# Altium schematic symbol library WL-OCTR.SchLib: 103 symbols (part 2 of 2)
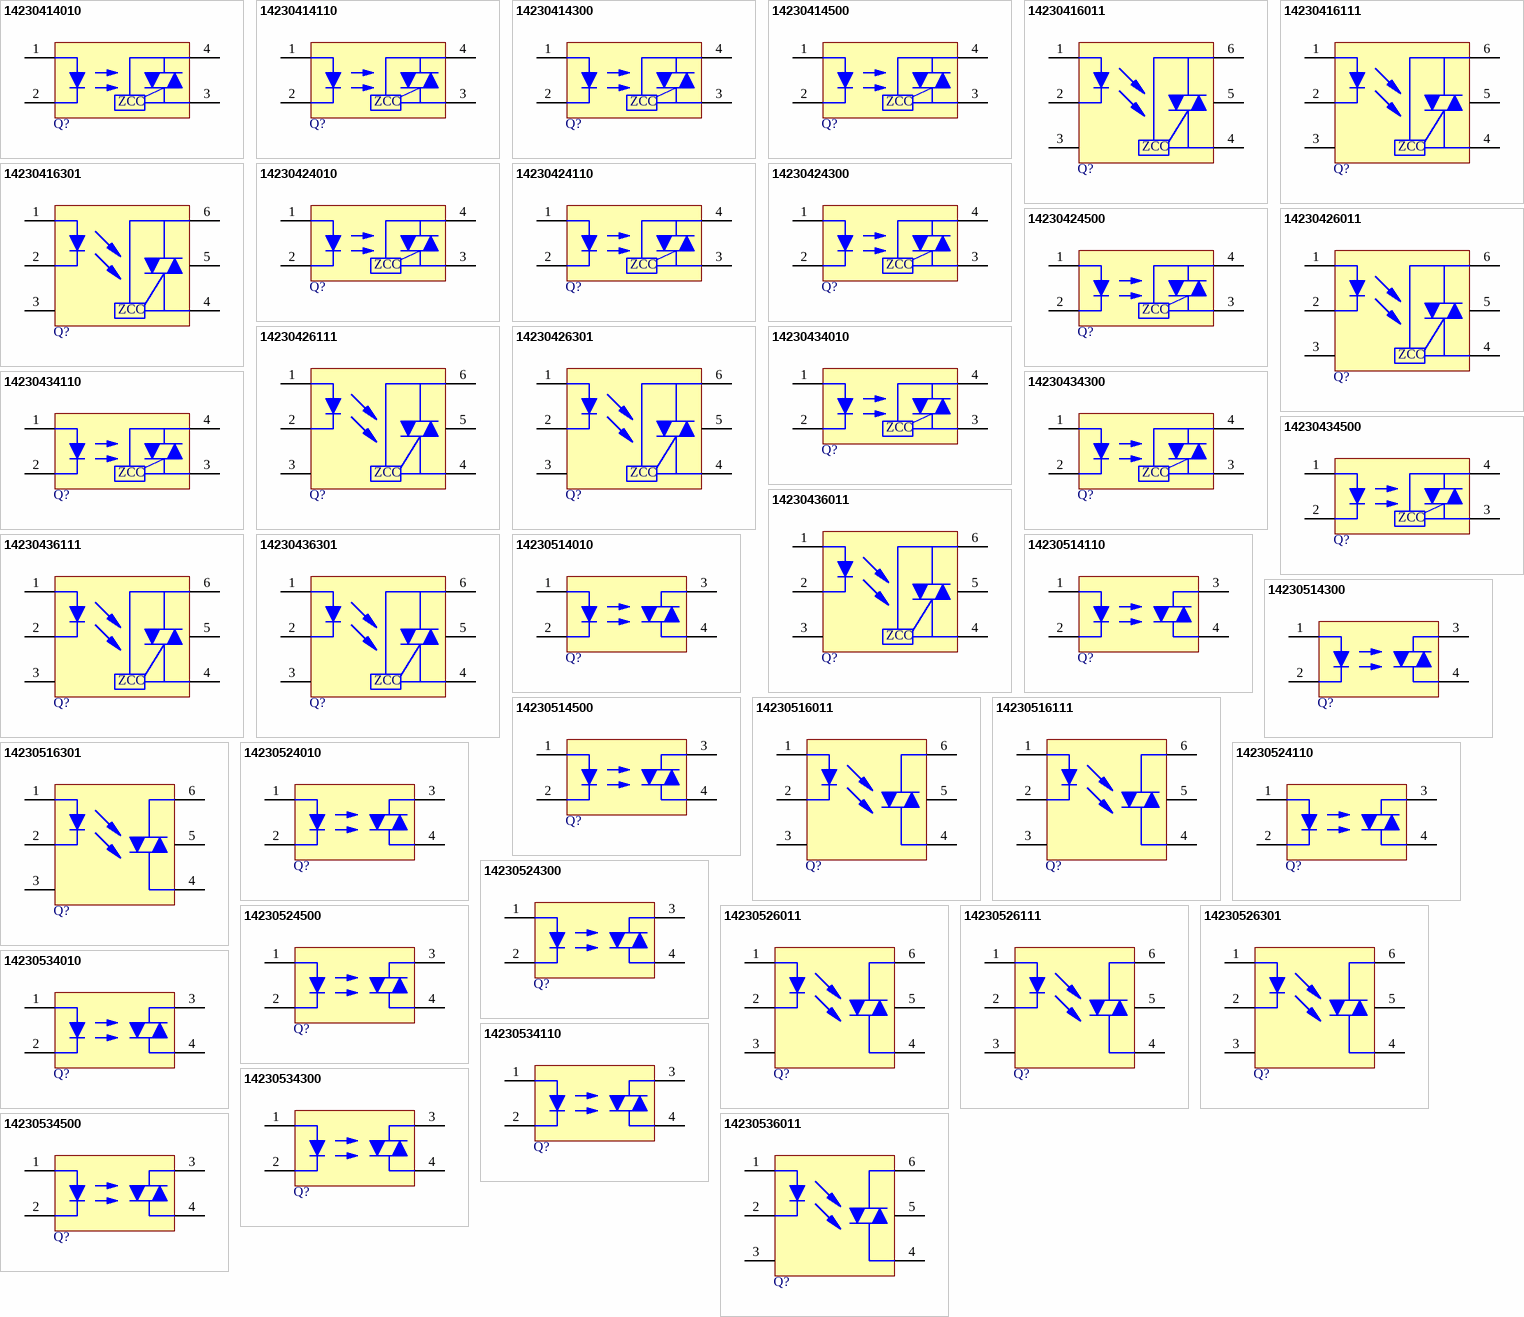
[diagram p3: symbols 14230414010 to 14230536011]

## 14230434500
designator Q?, comment 5mA, 1.24V  (value not drawn)
WL-OCTR Optocoupler Triac, SMT, SOP-4_Standard, 5mA, 1.24V; Manufacturer Part Number: 14230434500; Manufacturer: Wurth Elektronik; Isolation Voltage: 3750V (RMS); Repetitive Peak Off-state Voltage: 400V; Type: Zero Cross; Category: Optocoupler Triac; Match Code: WL-OCTR; ComponentLink1Description: Website Link; ComponentLink1URL: https://www.we-online.com/redexpert/article/14230434500?ad; ComponentLink2Description: Datasheet Link; ComponentLink2URL: https://www.we-online.com/redexpert/spec/14230434500?ad; Mount: Surface Mount; Operating Temperature Max: 100°C; Operating Temperature Min: -40°C; Packaging: Tape and Reel; Case/Size Code: SOP-4_Standard; Forward Voltage: 1.24V; LED Trigger current: 5mA
footprint WL-OCTR_SOP-4_Standard
pins: 1 Anode, 2 Cathode, 3 Terminal, 4 Terminal
text: ZCC

## 14230436011
designator Q?, comment 5mA, 1.24V  (value not drawn)
WL-OCTR Optocoupler Triac, THT, DIP-6_Standard, 5mA, 1.24V; Manufacturer Part Number: 14230436011; Manufacturer: Wurth Elektronik; Isolation Voltage: 5000V (RMS); Repetitive Peak Off-state Voltage: 400V; Type: Zero Cross; Category: Optocoupler Triac; Match Code: WL-OCTR; ComponentLink1Description: Website Link; ComponentLink1URL: https://www.we-online.com/redexpert/article/14230436011?ad; ComponentLink2Description: Datasheet Link; ComponentLink2URL: https://www.we-online.com/redexpert/spec/14230436011?ad; Mount: Through Hole; Operating Temperature Max: 100°C; Operating Temperature Min: -40°C; Packaging: Tube; Case/Size Code: DIP-6_Standard; Forward Voltage: 1.24V; LED Trigger current: 5mA
footprint WL-OCTR_DIP-6_Standard
pins: 1 Anode, 2 Cathode, 3 NC, 4 Terminal, 5 NC, 6 Terminal
text: ZCC

## 14230436111
designator Q?, comment 5mA, 1.24V  (value not drawn)
WL-OCTR Optocoupler Triac, THT, DIP-6_M-Type, 5mA, 1.24V; Manufacturer Part Number: 14230436111; Manufacturer: Wurth Elektronik; Isolation Voltage: 5000V (RMS); Repetitive Peak Off-state Voltage: 400V; Type: Zero Cross; Category: Optocoupler Triac; Match Code: WL-OCTR; ComponentLink1Description: Website Link; ComponentLink1URL: https://www.we-online.com/redexpert/article/14230436111?ad; ComponentLink2Description: Datasheet Link; ComponentLink2URL: https://www.we-online.com/redexpert/spec/14230436111?ad; Mount: Through Hole; Operating Temperature Max: 100°C; Operating Temperature Min: -40°C; Packaging: Tube; Case/Size Code: DIP-6_M-Type; Forward Voltage: 1.24V; LED Trigger current: 5mA
footprint WL-OCTR_DIP-6_M-Type
pins: 1 Anode, 2 Cathode, 3 NC, 4 Terminal, 5 NC, 6 Terminal
text: ZCC

## 14230436301
designator Q?, comment 5mA, 1.24V  (value not drawn)
WL-OCTR Optocoupler Triac, SMT, DIP-6_SL-Type, 5mA, 1.24V; Manufacturer Part Number: 14230436301; Manufacturer: Wurth Elektronik; Isolation Voltage: 5000V (RMS); Repetitive Peak Off-state Voltage: 400V; Type: Zero Cross; Category: Optocoupler Triac; Match Code: WL-OCTR; ComponentLink1Description: Website Link; ComponentLink1URL: https://www.we-online.com/redexpert/article/14230436301?ad; ComponentLink2Description: Datasheet Link; ComponentLink2URL: https://www.we-online.com/redexpert/spec/14230436301?ad; Mount: Surface Mount; Operating Temperature Max: 100°C; Operating Temperature Min: -40°C; Packaging: Tube; Case/Size Code: DIP-6_SL-Type; Forward Voltage: 1.24V; LED Trigger current: 5mA
footprint WL-OCTR_DIP-6_SL-Type
pins: 1 Anode, 2 Cathode, 3 NC, 4 Terminal, 5 NC, 6 Terminal
text: ZCC

## 14230514010
designator Q?, comment 15mA, 1.24V  (value not drawn)
WL-OCTR Optocoupler Triac, THT, DIP-4_Standard, 15mA, 1.24V; Manufacturer Part Number: 14230514010; Manufacturer: Wurth Elektronik; Isolation Voltage: 5000V (RMS); Repetitive Peak Off-state Voltage: 600V; Type: Random phase; Category: Optocoupler Triac; Match Code: WL-OCTR; ComponentLink1Description: Website Link; ComponentLink1URL: https://www.we-online.com/redexpert/article/14230514010?ad; ComponentLink2Description: Datasheet Link; ComponentLink2URL: https://www.we-online.com/redexpert/spec/14230514010?ad; Mount: Through Hole; Operating Temperature Max: 100°C; Operating Temperature Min: -40°C; Packaging: Tube; Case/Size Code: DIP-4_Standard; Forward Voltage: 1.24V; LED Trigger current: 15mA
footprint WL-OCTR_DIP-4_Standard
pins: 1 Anode, 2 Cathode, 3 Terminal, 4 Terminal

## 14230514110
designator Q?, comment 15mA, 1.24V  (value not drawn)
WL-OCTR Optocoupler Triac, THT, DIP-4_M-Type, 15mA, 1.24V; Manufacturer Part Number: 14230514110; Manufacturer: Wurth Elektronik; Isolation Voltage: 5000V (RMS); Repetitive Peak Off-state Voltage: 600V; Type: Random phase; Category: Optocoupler Triac; Match Code: WL-OCTR; ComponentLink1Description: Website Link; ComponentLink1URL: https://www.we-online.com/redexpert/article/14230514110?ad; ComponentLink2Description: Datasheet Link; ComponentLink2URL: https://www.we-online.com/redexpert/spec/14230514110?ad; Mount: Through Hole; Operating Temperature Max: 100°C; Operating Temperature Min: -40°C; Packaging: Tube; Case/Size Code: DIP-4_M-Type; Forward Voltage: 1.24V; LED Trigger current: 15mA
footprint WL-OCTR_DIP-4_M-Type
pins: 1 Anode, 2 Cathode, 3 Terminal, 4 Terminal

## 14230514300
designator Q?, comment 15mA, 1.24V  (value not drawn)
WL-OCTR Optocoupler Triac, SMT, DIP-4_SL-Type, 15mA, 1.24V; Manufacturer Part Number: 14230514300; Manufacturer: Wurth Elektronik; Isolation Voltage: 5000V (RMS); Repetitive Peak Off-state Voltage: 600V; Type: Random phase; Category: Optocoupler Triac; Match Code: WL-OCTR; ComponentLink1Description: Website Link; ComponentLink1URL: https://www.we-online.com/redexpert/article/14230514300?ad; ComponentLink2Description: Datasheet Link; ComponentLink2URL: https://www.we-online.com/redexpert/spec/14230514300?ad; Mount: Surface Mount; Operating Temperature Max: 100°C; Operating Temperature Min: -40°C; Packaging: Tube; Case/Size Code: DIP-4_SL-Type; Forward Voltage: 1.24V; LED Trigger current: 15mA
footprint WL-OCTR_DIP-4_SL-Type
pins: 1 Anode, 2 Cathode, 3 Terminal, 4 Terminal

## 14230514500
designator Q?, comment 15mA, 1.24V  (value not drawn)
WL-OCTR Optocoupler Triac, SMT, SOP-4_Standard, 15mA, 1.24V; Manufacturer Part Number: 14230514500; Manufacturer: Wurth Elektronik; Isolation Voltage: 3750V (RMS); Repetitive Peak Off-state Voltage: 600V; Type: Random phase; Category: Optocoupler Triac; Match Code: WL-OCTR; ComponentLink1Description: Website Link; ComponentLink1URL: https://www.we-online.com/redexpert/article/14230514500?ad; ComponentLink2Description: Datasheet Link; ComponentLink2URL: https://www.we-online.com/redexpert/spec/14230514500?ad; Mount: Surface Mount; Operating Temperature Max: 100°C; Operating Temperature Min: -40°C; Packaging: Tape and Reel; Case/Size Code: SOP-4_Standard; Forward Voltage: 1.24V; LED Trigger current: 15mA
footprint WL-OCTR_SOP-4_Standard
pins: 1 Anode, 2 Cathode, 3 Terminal, 4 Terminal

## 14230516011
designator Q?, comment 15mA, 1.24V  (value not drawn)
WL-OCTR Optocoupler Triac, THT, DIP-6_Standard, 15mA, 1.24V; Manufacturer Part Number: 14230516011; Manufacturer: Wurth Elektronik; Isolation Voltage: 5000V (RMS); Repetitive Peak Off-state Voltage: 600V; Type: Random phase; Category: Optocoupler Triac; Match Code: WL-OCTR; ComponentLink1Description: Website Link; ComponentLink1URL: https://www.we-online.com/redexpert/article/14230516011?ad; ComponentLink2Description: Datasheet Link; ComponentLink2URL: https://www.we-online.com/redexpert/spec/14230516011?ad; Mount: Through Hole; Operating Temperature Max: 100°C; Operating Temperature Min: -40°C; Packaging: Tube; Case/Size Code: DIP-6_Standard; Forward Voltage: 1.24V; LED Trigger current: 15mA
footprint WL-OCTR_DIP-6_Standard
pins: 1 Anode, 2 Cathode, 3 NC, 4 Terminal, 5 NC, 6 Terminal

## 14230516111
designator Q?, comment 15mA, 1.24V  (value not drawn)
WL-OCTR Optocoupler Triac, THT, DIP-6_M-Type, 15mA, 1.24V; Manufacturer Part Number: 14230516111; Manufacturer: Wurth Elektronik; Isolation Voltage: 5000V (RMS); Repetitive Peak Off-state Voltage: 600V; Type: Random phase; Category: Optocoupler Triac; Match Code: WL-OCTR; ComponentLink1Description: Website Link; ComponentLink1URL: https://www.we-online.com/redexpert/article/14230516111?ad; ComponentLink2Description: Datasheet Link; ComponentLink2URL: https://www.we-online.com/redexpert/spec/14230516111?ad; Mount: Through Hole; Operating Temperature Max: 100°C; Operating Temperature Min: -40°C; Packaging: Tube; Case/Size Code: DIP-6_M-Type; Forward Voltage: 1.24V; LED Trigger current: 15mA
footprint WL-OCTR_DIP-6_M-Type
pins: 1 Anode, 2 Cathode, 3 NC, 4 Terminal, 5 NC, 6 Terminal

## 14230516301
designator Q?, comment 15mA, 1.24V  (value not drawn)
WL-OCTR Optocoupler Triac, SMT, DIP-6_SL-Type, 15mA, 1.24V; Manufacturer Part Number: 14230516301; Manufacturer: Wurth Elektronik; Isolation Voltage: 5000V (RMS); Repetitive Peak Off-state Voltage: 600V; Type: Random phase; Category: Optocoupler Triac; Match Code: WL-OCTR; ComponentLink1Description: Website Link; ComponentLink1URL: https://www.we-online.com/redexpert/article/14230516301?ad; ComponentLink2Description: Datasheet Link; ComponentLink2URL: https://www.we-online.com/redexpert/spec/14230516301?ad; Mount: Surface Mount; Operating Temperature Max: 100°C; Operating Temperature Min: -40°C; Packaging: Tube; Case/Size Code: DIP-6_SL-Type; Forward Voltage: 1.24V; LED Trigger current: 15mA
footprint WL-OCTR_DIP-6_SL-Type
pins: 1 Anode, 2 Cathode, 3 NC, 4 Terminal, 5 NC, 6 Terminal

## 14230524010
designator Q?, comment 10mA, 1.24V  (value not drawn)
WL-OCTR Optocoupler Triac, THT, DIP-4_Standard, 10mA, 1.24V; Manufacturer Part Number: 14230524010; Manufacturer: Wurth Elektronik; Isolation Voltage: 5000V (RMS); Repetitive Peak Off-state Voltage: 600V; Type: Random phase; Category: Optocoupler Triac; Match Code: WL-OCTR; ComponentLink1Description: Website Link; ComponentLink1URL: https://www.we-online.com/redexpert/article/14230524010?ad; ComponentLink2Description: Datasheet Link; ComponentLink2URL: https://www.we-online.com/redexpert/spec/14230524010?ad; Mount: Through Hole; Operating Temperature Max: 100°C; Operating Temperature Min: -40°C; Packaging: Tube; Case/Size Code: DIP-4_Standard; Forward Voltage: 1.24V; LED Trigger current: 10mA
footprint WL-OCTR_DIP-4_Standard
pins: 1 Anode, 2 Cathode, 3 Terminal, 4 Terminal

## 14230524110
designator Q?, comment 10mA, 1.24V  (value not drawn)
WL-OCTR Optocoupler Triac, THT, DIP-4_M-Type, 10mA, 1.24V; Manufacturer Part Number: 14230524110; Manufacturer: Wurth Elektronik; Isolation Voltage: 5000V (RMS); Repetitive Peak Off-state Voltage: 600V; Type: Random phase; Category: Optocoupler Triac; Match Code: WL-OCTR; ComponentLink1Description: Website Link; ComponentLink1URL: https://www.we-online.com/redexpert/article/14230524110?ad; ComponentLink2Description: Datasheet Link; ComponentLink2URL: https://www.we-online.com/redexpert/spec/14230524110?ad; Mount: Through Hole; Operating Temperature Max: 100°C; Operating Temperature Min: -40°C; Packaging: Tube; Case/Size Code: DIP-4_M-Type; Forward Voltage: 1.24V; LED Trigger current: 10mA
footprint WL-OCTR_DIP-4_M-Type
pins: 1 Anode, 2 Cathode, 3 Terminal, 4 Terminal

## 14230524300
designator Q?, comment 10mA, 1.24V  (value not drawn)
WL-OCTR Optocoupler Triac, SMT, DIP-4_SL-Type, 10mA, 1.24V; Manufacturer Part Number: 14230524300; Manufacturer: Wurth Elektronik; Isolation Voltage: 5000V (RMS); Repetitive Peak Off-state Voltage: 600V; Type: Random phase; Category: Optocoupler Triac; Match Code: WL-OCTR; ComponentLink1Description: Website Link; ComponentLink1URL: https://www.we-online.com/redexpert/article/14230524300?ad; ComponentLink2Description: Datasheet Link; ComponentLink2URL: https://www.we-online.com/redexpert/spec/14230524300?ad; Mount: Surface Mount; Operating Temperature Max: 100°C; Operating Temperature Min: -40°C; Packaging: Tube; Case/Size Code: DIP-4_SL-Type; Forward Voltage: 1.24V; LED Trigger current: 10mA
footprint WL-OCTR_DIP-4_SL-Type
pins: 1 Anode, 2 Cathode, 3 Terminal, 4 Terminal

## 14230524500
designator Q?, comment 10mA, 1.24V  (value not drawn)
WL-OCTR Optocoupler Triac, SMT, SOP-4_Standard, 10mA, 1.24V; Manufacturer Part Number: 14230524500; Manufacturer: Wurth Elektronik; Isolation Voltage: 3750V (RMS); Repetitive Peak Off-state Voltage: 600V; Type: Random phase; Category: Optocoupler Triac; Match Code: WL-OCTR; ComponentLink1Description: Website Link; ComponentLink1URL: https://www.we-online.com/redexpert/article/14230524500?ad; ComponentLink2Description: Datasheet Link; ComponentLink2URL: https://www.we-online.com/redexpert/spec/14230524500?ad; Mount: Surface Mount; Operating Temperature Max: 100°C; Operating Temperature Min: -40°C; Packaging: Tape and Reel; Case/Size Code: SOP-4_Standard; Forward Voltage: 1.24V; LED Trigger current: 10mA
footprint WL-OCTR_SOP-4_Standard
pins: 1 Anode, 2 Cathode, 3 Terminal, 4 Terminal

## 14230526011
designator Q?, comment 10mA, 1.24V  (value not drawn)
WL-OCTR Optocoupler Triac, THT, DIP-6_Standard, 10mA, 1.24V; Manufacturer Part Number: 14230526011; Manufacturer: Wurth Elektronik; Isolation Voltage: 5000V (RMS); Repetitive Peak Off-state Voltage: 600V; Type: Random phase; Category: Optocoupler Triac; Match Code: WL-OCTR; ComponentLink1Description: Website Link; ComponentLink1URL: https://www.we-online.com/redexpert/article/14230526011?ad; ComponentLink2Description: Datasheet Link; ComponentLink2URL: https://www.we-online.com/redexpert/spec/14230526011?ad; Mount: Through Hole; Operating Temperature Max: 100°C; Operating Temperature Min: -40°C; Packaging: Tube; Case/Size Code: DIP-6_Standard; Forward Voltage: 1.24V; LED Trigger current: 10mA
footprint WL-OCTR_DIP-6_Standard
pins: 1 Anode, 2 Cathode, 3 NC, 4 Terminal, 5 NC, 6 Terminal

## 14230526111
designator Q?, comment 10mA, 1.24V  (value not drawn)
WL-OCTR Optocoupler Triac, THT, DIP-6_M-Type, 10mA, 1.24V; Manufacturer Part Number: 14230526111; Manufacturer: Wurth Elektronik; Isolation Voltage: 5000V (RMS); Repetitive Peak Off-state Voltage: 600V; Type: Random phase; Category: Optocoupler Triac; Match Code: WL-OCTR; ComponentLink1Description: Website Link; ComponentLink1URL: https://www.we-online.com/redexpert/article/14230526111?ad; ComponentLink2Description: Datasheet Link; ComponentLink2URL: https://www.we-online.com/redexpert/spec/14230526111?ad; Mount: Through Hole; Operating Temperature Max: 100°C; Operating Temperature Min: -40°C; Packaging: Tube; Case/Size Code: DIP-6_M-Type; Forward Voltage: 1.24V; LED Trigger current: 10mA
footprint WL-OCTR_DIP-6_M-Type
pins: 1 Anode, 2 Cathode, 3 NC, 4 Terminal, 5 NC, 6 Terminal

## 14230526301
designator Q?, comment 10mA, 1.24V  (value not drawn)
WL-OCTR Optocoupler Triac, SMT, DIP-6_SL-Type, 10mA, 1.24V; Manufacturer Part Number: 14230526301; Manufacturer: Wurth Elektronik; Isolation Voltage: 5000V (RMS); Repetitive Peak Off-state Voltage: 600V; Type: Random phase; Category: Optocoupler Triac; Match Code: WL-OCTR; ComponentLink1Description: Website Link; ComponentLink1URL: https://www.we-online.com/redexpert/article/14230526301?ad; ComponentLink2Description: Datasheet Link; ComponentLink2URL: https://www.we-online.com/redexpert/spec/14230526301?ad; Mount: Surface Mount; Operating Temperature Max: 100°C; Operating Temperature Min: -40°C; Packaging: Tube; Case/Size Code: DIP-6_SL-Type; Forward Voltage: 1.24V; LED Trigger current: 10mA
footprint WL-OCTR_DIP-6_SL-Type
pins: 1 Anode, 2 Cathode, 3 NC, 4 Terminal, 5 NC, 6 Terminal

## 14230534010
designator Q?, comment 5mA, 1.24V  (value not drawn)
WL-OCTR Optocoupler Triac, THT, DIP-4_Standard, 5mA, 1.24V; Manufacturer Part Number: 14230534010; Manufacturer: Wurth Elektronik; Isolation Voltage: 5000V (RMS); Repetitive Peak Off-state Voltage: 600V; Type: Random phase; Category: Optocoupler Triac; Match Code: WL-OCTR; ComponentLink1Description: Website Link; ComponentLink1URL: https://www.we-online.com/redexpert/article/14230534010?ad; ComponentLink2Description: Datasheet Link; ComponentLink2URL: https://www.we-online.com/redexpert/spec/14230534010?ad; Mount: Through Hole; Operating Temperature Max: 100°C; Operating Temperature Min: -40°C; Packaging: Tube; Case/Size Code: DIP-4_Standard; Forward Voltage: 1.24V; LED Trigger current: 5mA
footprint WL-OCTR_DIP-4_Standard
pins: 1 Anode, 2 Cathode, 3 Terminal, 4 Terminal

## 14230534110
designator Q?, comment 5mA, 1.24V  (value not drawn)
WL-OCTR Optocoupler Triac, THT, DIP-4_M-Type, 5mA, 1.24V; Manufacturer Part Number: 14230534110; Manufacturer: Wurth Elektronik; Isolation Voltage: 5000V (RMS); Repetitive Peak Off-state Voltage: 600V; Type: Random phase; Category: Optocoupler Triac; Match Code: WL-OCTR; ComponentLink1Description: Website Link; ComponentLink1URL: https://www.we-online.com/redexpert/article/14230534110?ad; ComponentLink2Description: Datasheet Link; ComponentLink2URL: https://www.we-online.com/redexpert/spec/14230534110?ad; Mount: Through Hole; Operating Temperature Max: 100°C; Operating Temperature Min: -40°C; Packaging: Tube; Case/Size Code: DIP-4_M-Type; Forward Voltage: 1.24V; LED Trigger current: 5mA
footprint WL-OCTR_DIP-4_M-Type
pins: 1 Anode, 2 Cathode, 3 Terminal, 4 Terminal

## 14230534300
designator Q?, comment 5mA, 1.24V  (value not drawn)
WL-OCTR Optocoupler Triac, SMT, DIP-4_SL-Type, 5mA, 1.24V; Manufacturer Part Number: 14230534300; Manufacturer: Wurth Elektronik; Isolation Voltage: 5000V (RMS); Repetitive Peak Off-state Voltage: 600V; Type: Random phase; Category: Optocoupler Triac; Match Code: WL-OCTR; ComponentLink1Description: Website Link; ComponentLink1URL: https://www.we-online.com/redexpert/article/14230534300?ad; ComponentLink2Description: Datasheet Link; ComponentLink2URL: https://www.we-online.com/redexpert/spec/14230534300?ad; Mount: Surface Mount; Operating Temperature Max: 100°C; Operating Temperature Min: -40°C; Packaging: Tube; Case/Size Code: DIP-4_SL-Type; Forward Voltage: 1.24V; LED Trigger current: 5mA
footprint WL-OCTR_DIP-4_SL-Type
pins: 1 Anode, 2 Cathode, 3 Terminal, 4 Terminal

## 14230534500
designator Q?, comment 5mA, 1.24V  (value not drawn)
WL-OCTR Optocoupler Triac, SMT, SOP-4_Standard, 5mA, 1.24V; Manufacturer Part Number: 14230534500; Manufacturer: Wurth Elektronik; Isolation Voltage: 3750V (RMS); Repetitive Peak Off-state Voltage: 600V; Type: Random phase; Category: Optocoupler Triac; Match Code: WL-OCTR; ComponentLink1Description: Website Link; ComponentLink1URL: https://www.we-online.com/redexpert/article/14230534500?ad; ComponentLink2Description: Datasheet Link; ComponentLink2URL: https://www.we-online.com/redexpert/spec/14230534500?ad; Mount: Surface Mount; Operating Temperature Max: 100°C; Operating Temperature Min: -40°C; Packaging: Tape and Reel; Case/Size Code: SOP-4_Standard; Forward Voltage: 1.24V; LED Trigger current: 5mA
footprint WL-OCTR_SOP-4_Standard
pins: 1 Anode, 2 Cathode, 3 Terminal, 4 Terminal

## 14230536011
designator Q?, comment 5mA, 1.24V  (value not drawn)
WL-OCTR Optocoupler Triac, THT, DIP-6_Standard, 5mA, 1.24V; Manufacturer Part Number: 14230536011; Manufacturer: Wurth Elektronik; Isolation Voltage: 5000V (RMS); Repetitive Peak Off-state Voltage: 600V; Type: Random phase; Category: Optocoupler Triac; Match Code: WL-OCTR; ComponentLink1Description: Website Link; ComponentLink1URL: https://www.we-online.com/redexpert/article/14230536011?ad; ComponentLink2Description: Datasheet Link; ComponentLink2URL: https://www.we-online.com/redexpert/spec/14230536011?ad; Mount: Through Hole; Operating Temperature Max: 100°C; Operating Temperature Min: -40°C; Packaging: Tube; Case/Size Code: DIP-6_Standard; Forward Voltage: 1.24V; LED Trigger current: 5mA
footprint WL-OCTR_DIP-6_Standard
pins: 1 Anode, 2 Cathode, 3 NC, 4 Terminal, 5 NC, 6 Terminal

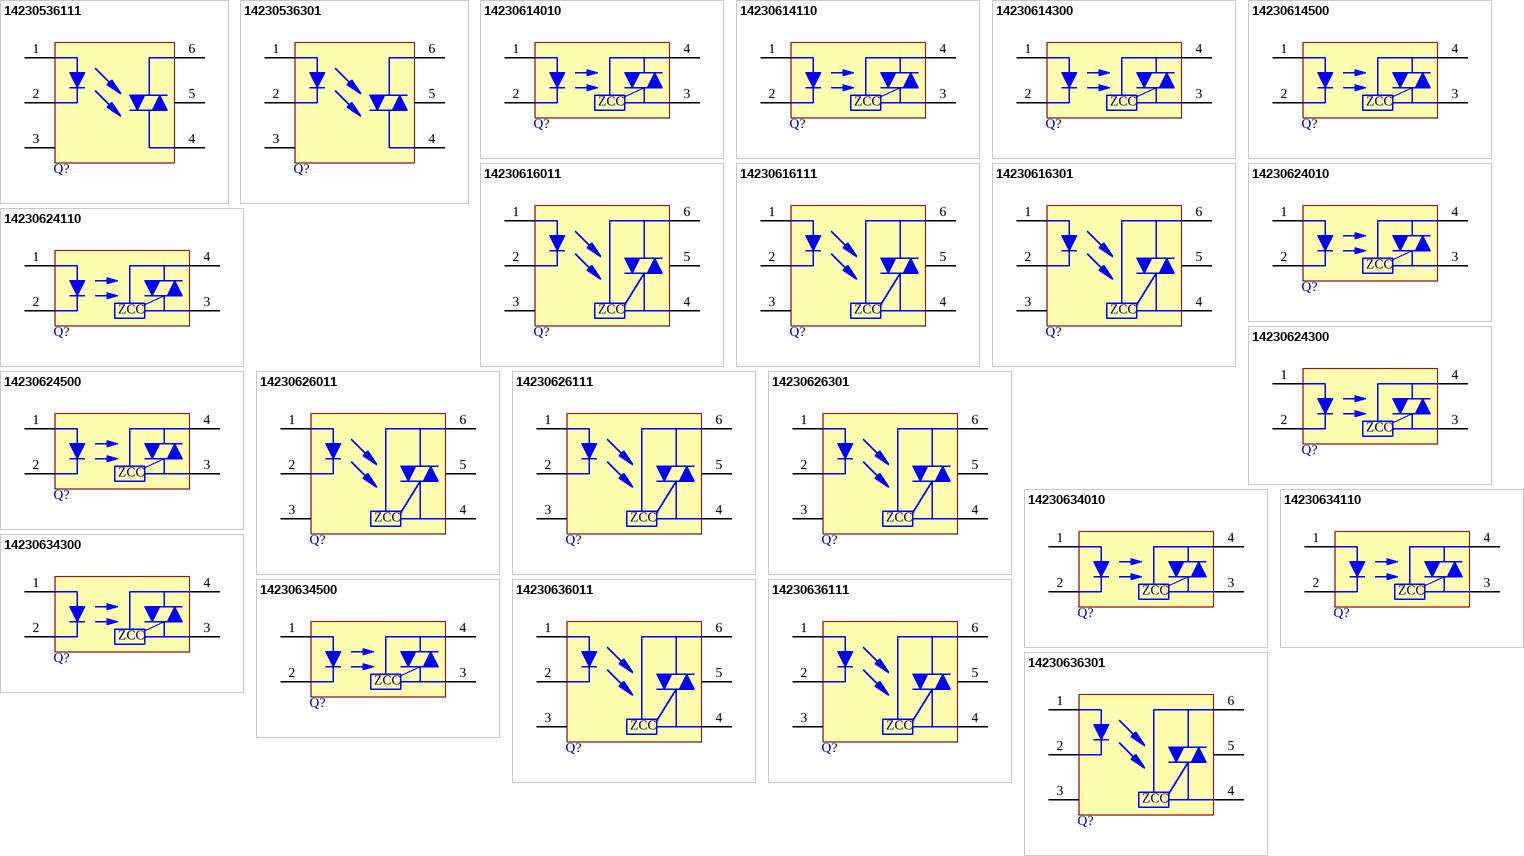
[diagram p2: symbols 14230536111 to 14230636301]

## 14230536111
designator Q?, comment 5mA, 1.24V  (value not drawn)
WL-OCTR Optocoupler Triac, THT, DIP-6_M-Type, 5mA, 1.24V; Manufacturer Part Number: 14230536111; Manufacturer: Wurth Elektronik; Isolation Voltage: 5000V (RMS); Repetitive Peak Off-state Voltage: 600V; Type: Random phase; Category: Optocoupler Triac; Match Code: WL-OCTR; ComponentLink1Description: Website Link; ComponentLink1URL: https://www.we-online.com/redexpert/article/14230536111?ad; ComponentLink2Description: Datasheet Link; ComponentLink2URL: https://www.we-online.com/redexpert/spec/14230536111?ad; Mount: Through Hole; Operating Temperature Max: 100°C; Operating Temperature Min: -40°C; Packaging: Tube; Case/Size Code: DIP-6_M-Type; Forward Voltage: 1.24V; LED Trigger current: 5mA
footprint WL-OCTR_DIP-6_M-Type
pins: 1 Anode, 2 Cathode, 3 NC, 4 Terminal, 5 NC, 6 Terminal

## 14230536301
designator Q?, comment 5mA, 1.24V  (value not drawn)
WL-OCTR Optocoupler Triac, SMT, DIP-6_SL-Type, 5mA, 1.24V; Manufacturer Part Number: 14230536301; Manufacturer: Wurth Elektronik; Isolation Voltage: 5000V (RMS); Repetitive Peak Off-state Voltage: 600V; Type: Random phase; Category: Optocoupler Triac; Match Code: WL-OCTR; ComponentLink1Description: Website Link; ComponentLink1URL: https://www.we-online.com/redexpert/article/14230536301?ad; ComponentLink2Description: Datasheet Link; ComponentLink2URL: https://www.we-online.com/redexpert/spec/14230536301?ad; Mount: Surface Mount; Operating Temperature Max: 100°C; Operating Temperature Min: -40°C; Packaging: Tube; Case/Size Code: DIP-6_SL-Type; Forward Voltage: 1.24V; LED Trigger current: 5mA
footprint WL-OCTR_DIP-6_SL-Type
pins: 1 Anode, 2 Cathode, 3 NC, 4 Terminal, 5 NC, 6 Terminal

## 14230614010
designator Q?, comment 15mA, 1.24V  (value not drawn)
WL-OCTR Optocoupler Triac, THT, DIP-4_Standard, 15mA, 1.24V; Manufacturer Part Number: 14230614010; Manufacturer: Wurth Elektronik; Isolation Voltage: 5000V (RMS); Repetitive Peak Off-state Voltage: 600V; Type: Zero Cross; Category: Optocoupler Triac; Match Code: WL-OCTR; ComponentLink1Description: Website Link; ComponentLink1URL: https://www.we-online.com/redexpert/article/14230614010?ad; ComponentLink2Description: Datasheet Link; ComponentLink2URL: https://www.we-online.com/redexpert/spec/14230614010?ad; Mount: Through Hole; Operating Temperature Max: 100°C; Operating Temperature Min: -40°C; Packaging: Tube; Case/Size Code: DIP-4_Standard; Forward Voltage: 1.24V; LED Trigger current: 15mA
footprint WL-OCTR_DIP-4_Standard
pins: 1 Anode, 2 Cathode, 3 Terminal, 4 Terminal
text: ZCC

## 14230614110
designator Q?, comment 15mA, 1.24V  (value not drawn)
WL-OCTR Optocoupler Triac, THT, DIP-4_M-Type, 15mA, 1.24V; Manufacturer Part Number: 14230614110; Manufacturer: Wurth Elektronik; Isolation Voltage: 5000V (RMS); Repetitive Peak Off-state Voltage: 600V; Type: Zero Cross; Category: Optocoupler Triac; Match Code: WL-OCTR; ComponentLink1Description: Website Link; ComponentLink1URL: https://www.we-online.com/redexpert/article/14230614110?ad; ComponentLink2Description: Datasheet Link; ComponentLink2URL: https://www.we-online.com/redexpert/spec/14230614110?ad; Mount: Through Hole; Operating Temperature Max: 100°C; Operating Temperature Min: -40°C; Packaging: Tube; Case/Size Code: DIP-4_M-Type; Forward Voltage: 1.24V; LED Trigger current: 15mA
footprint WL-OCTR_DIP-4_M-Type
pins: 1 Anode, 2 Cathode, 3 Terminal, 4 Terminal
text: ZCC

## 14230614300
designator Q?, comment 15mA, 1.24V  (value not drawn)
WL-OCTR Optocoupler Triac, SMT, DIP-4_SL-Type, 15mA, 1.24V; Manufacturer Part Number: 14230614300; Manufacturer: Wurth Elektronik; Isolation Voltage: 5000V (RMS); Repetitive Peak Off-state Voltage: 600V; Type: Zero Cross; Category: Optocoupler Triac; Match Code: WL-OCTR; ComponentLink1Description: Website Link; ComponentLink1URL: https://www.we-online.com/redexpert/article/14230614300?ad; ComponentLink2Description: Datasheet Link; ComponentLink2URL: https://www.we-online.com/redexpert/spec/14230614300?ad; Mount: Surface Mount; Operating Temperature Max: 100°C; Operating Temperature Min: -40°C; Packaging: Tube; Case/Size Code: DIP-4_SL-Type; Forward Voltage: 1.24V; LED Trigger current: 15mA
footprint WL-OCTR_DIP-4_SL-Type
pins: 1 Anode, 2 Cathode, 3 Terminal, 4 Terminal
text: ZCC

## 14230614500
designator Q?, comment 15mA, 1.24V  (value not drawn)
WL-OCTR Optocoupler Triac, SMT, SOP-4_Standard, 15mA, 1.24V; Manufacturer Part Number: 14230614500; Manufacturer: Wurth Elektronik; Isolation Voltage: 3750V (RMS); Repetitive Peak Off-state Voltage: 600V; Type: Zero Cross; Category: Optocoupler Triac; Match Code: WL-OCTR; ComponentLink1Description: Website Link; ComponentLink1URL: https://www.we-online.com/redexpert/article/14230614500?ad; ComponentLink2Description: Datasheet Link; ComponentLink2URL: https://www.we-online.com/redexpert/spec/14230614500?ad; Mount: Surface Mount; Operating Temperature Max: 100°C; Operating Temperature Min: -40°C; Packaging: Tape and Reel; Case/Size Code: SOP-4_Standard; Forward Voltage: 1.24V; LED Trigger current: 15mA
footprint WL-OCTR_SOP-4_Standard
pins: 1 Anode, 2 Cathode, 3 Terminal, 4 Terminal
text: ZCC

## 14230616011
designator Q?, comment 15mA, 1.24V  (value not drawn)
WL-OCTR Optocoupler Triac, THT, DIP-6_Standard, 15mA, 1.24V; Manufacturer Part Number: 14230616011; Manufacturer: Wurth Elektronik; Isolation Voltage: 5000V (RMS); Repetitive Peak Off-state Voltage: 600V; Type: Zero Cross; Category: Optocoupler Triac; Match Code: WL-OCTR; ComponentLink1Description: Website Link; ComponentLink1URL: https://www.we-online.com/redexpert/article/14230616011?ad; ComponentLink2Description: Datasheet Link; ComponentLink2URL: https://www.we-online.com/redexpert/spec/14230616011?ad; Mount: Through Hole; Operating Temperature Max: 100°C; Operating Temperature Min: -40°C; Packaging: Tube; Case/Size Code: DIP-6_Standard; Forward Voltage: 1.24V; LED Trigger current: 15mA
footprint WL-OCTR_DIP-6_Standard
pins: 1 Anode, 2 Cathode, 3 NC, 4 Terminal, 5 NC, 6 Terminal
text: ZCC

## 14230616111
designator Q?, comment 15mA, 1.24V  (value not drawn)
WL-OCTR Optocoupler Triac, THT, DIP-6_M-Type, 15mA, 1.24V; Manufacturer Part Number: 14230616111; Manufacturer: Wurth Elektronik; Isolation Voltage: 5000V (RMS); Repetitive Peak Off-state Voltage: 600V; Type: Zero Cross; Category: Optocoupler Triac; Match Code: WL-OCTR; ComponentLink1Description: Website Link; ComponentLink1URL: https://www.we-online.com/redexpert/article/14230616111?ad; ComponentLink2Description: Datasheet Link; ComponentLink2URL: https://www.we-online.com/redexpert/spec/14230616111?ad; Mount: Through Hole; Operating Temperature Max: 100°C; Operating Temperature Min: -40°C; Packaging: Tube; Case/Size Code: DIP-6_M-Type; Forward Voltage: 1.24V; LED Trigger current: 15mA
footprint WL-OCTR_DIP-6_M-Type
pins: 1 Anode, 2 Cathode, 3 NC, 4 Terminal, 5 NC, 6 Terminal
text: ZCC

## 14230616301
designator Q?, comment 15mA, 1.24V  (value not drawn)
WL-OCTR Optocoupler Triac, SMT, DIP-6_SL-Type, 15mA, 1.24V; Manufacturer Part Number: 14230616301; Manufacturer: Wurth Elektronik; Isolation Voltage: 5000V (RMS); Repetitive Peak Off-state Voltage: 600V; Type: Zero Cross; Category: Optocoupler Triac; Match Code: WL-OCTR; ComponentLink1Description: Website Link; ComponentLink1URL: https://www.we-online.com/redexpert/article/14230616301?ad; ComponentLink2Description: Datasheet Link; ComponentLink2URL: https://www.we-online.com/redexpert/spec/14230616301?ad; Mount: Surface Mount; Operating Temperature Max: 100°C; Operating Temperature Min: -40°C; Packaging: Tube; Case/Size Code: DIP-6_SL-Type; Forward Voltage: 1.24V; LED Trigger current: 15mA
footprint WL-OCTR_DIP-6_SL-Type
pins: 1 Anode, 2 Cathode, 3 NC, 4 Terminal, 5 NC, 6 Terminal
text: ZCC

## 14230624010
designator Q?, comment 10mA, 1.24V  (value not drawn)
WL-OCTR Optocoupler Triac, THT, DIP-4_Standard, 10mA, 1.24V; Manufacturer Part Number: 14230624010; Manufacturer: Wurth Elektronik; Isolation Voltage: 5000V (RMS); Repetitive Peak Off-state Voltage: 600V; Type: Zero Cross; Category: Optocoupler Triac; Match Code: WL-OCTR; ComponentLink1Description: Website Link; ComponentLink1URL: https://www.we-online.com/redexpert/article/14230624010?ad; ComponentLink2Description: Datasheet Link; ComponentLink2URL: https://www.we-online.com/redexpert/spec/14230624010?ad; Mount: Through Hole; Operating Temperature Max: 100°C; Operating Temperature Min: -40°C; Packaging: Tube; Case/Size Code: DIP-4_Standard; Forward Voltage: 1.24V; LED Trigger current: 10mA
footprint WL-OCTR_DIP-4_Standard
pins: 1 Anode, 2 Cathode, 3 Terminal, 4 Terminal
text: ZCC

## 14230624110
designator Q?, comment 10mA, 1.24V  (value not drawn)
WL-OCTR Optocoupler Triac, THT, DIP-4_M-Type, 10mA, 1.24V; Manufacturer Part Number: 14230624110; Manufacturer: Wurth Elektronik; Isolation Voltage: 5000V (RMS); Repetitive Peak Off-state Voltage: 600V; Type: Zero Cross; Category: Optocoupler Triac; Match Code: WL-OCTR; ComponentLink1Description: Website Link; ComponentLink1URL: https://www.we-online.com/redexpert/article/14230624110?ad; ComponentLink2Description: Datasheet Link; ComponentLink2URL: https://www.we-online.com/redexpert/spec/14230624110?ad; Mount: Through Hole; Operating Temperature Max: 100°C; Operating Temperature Min: -40°C; Packaging: Tube; Case/Size Code: DIP-4_M-Type; Forward Voltage: 1.24V; LED Trigger current: 10mA
footprint WL-OCTR_DIP-4_M-Type
pins: 1 Anode, 2 Cathode, 3 Terminal, 4 Terminal
text: ZCC

## 14230624300
designator Q?, comment 10mA, 1.24V  (value not drawn)
WL-OCTR Optocoupler Triac, SMT, DIP-4_SL-Type, 10mA, 1.24V; Manufacturer Part Number: 14230624300; Manufacturer: Wurth Elektronik; Isolation Voltage: 5000V (RMS); Repetitive Peak Off-state Voltage: 600V; Type: Zero Cross; Category: Optocoupler Triac; Match Code: WL-OCTR; ComponentLink1Description: Website Link; ComponentLink1URL: https://www.we-online.com/redexpert/article/14230624300?ad; ComponentLink2Description: Datasheet Link; ComponentLink2URL: https://www.we-online.com/redexpert/spec/14230624300?ad; Mount: Surface Mount; Operating Temperature Max: 100°C; Operating Temperature Min: -40°C; Packaging: Tube; Case/Size Code: DIP-4_SL-Type; Forward Voltage: 1.24V; LED Trigger current: 10mA
footprint WL-OCTR_DIP-4_SL-Type
pins: 1 Anode, 2 Cathode, 3 Terminal, 4 Terminal
text: ZCC

## 14230624500
designator Q?, comment 10mA, 1.24V  (value not drawn)
WL-OCTR Optocoupler Triac, SMT, SOP-4_Standard, 10mA, 1.24V; Manufacturer Part Number: 14230624500; Manufacturer: Wurth Elektronik; Isolation Voltage: 3750V (RMS); Repetitive Peak Off-state Voltage: 600V; Type: Zero Cross; Category: Optocoupler Triac; Match Code: WL-OCTR; ComponentLink1Description: Website Link; ComponentLink1URL: https://www.we-online.com/redexpert/article/14230624500?ad; ComponentLink2Description: Datasheet Link; ComponentLink2URL: https://www.we-online.com/redexpert/spec/14230624500?ad; Mount: Surface Mount; Operating Temperature Max: 100°C; Operating Temperature Min: -40°C; Packaging: Tape and Reel; Case/Size Code: SOP-4_Standard; Forward Voltage: 1.24V; LED Trigger current: 10mA
footprint WL-OCTR_SOP-4_Standard
pins: 1 Anode, 2 Cathode, 3 Terminal, 4 Terminal
text: ZCC

## 14230626011
designator Q?, comment 10mA, 1.24V  (value not drawn)
WL-OCTR Optocoupler Triac, THT, DIP-6_Standard, 10mA, 1.24V; Manufacturer Part Number: 14230626011; Manufacturer: Wurth Elektronik; Isolation Voltage: 5000V (RMS); Repetitive Peak Off-state Voltage: 600V; Type: Zero Cross; Category: Optocoupler Triac; Match Code: WL-OCTR; ComponentLink1Description: Website Link; ComponentLink1URL: https://www.we-online.com/redexpert/article/14230626011?ad; ComponentLink2Description: Datasheet Link; ComponentLink2URL: https://www.we-online.com/redexpert/spec/14230626011?ad; Mount: Through Hole; Operating Temperature Max: 100°C; Operating Temperature Min: -40°C; Packaging: Tube; Case/Size Code: DIP-6_Standard; Forward Voltage: 1.24V; LED Trigger current: 10mA
footprint WL-OCTR_DIP-6_Standard
pins: 1 Anode, 2 Cathode, 3 NC, 4 Terminal, 5 NC, 6 Terminal
text: ZCC

## 14230626111
designator Q?, comment 10mA, 1.24V  (value not drawn)
WL-OCTR Optocoupler Triac, THT, DIP-6_M-Type, 10mA, 1.24V; Manufacturer Part Number: 14230626111; Manufacturer: Wurth Elektronik; Isolation Voltage: 5000V (RMS); Repetitive Peak Off-state Voltage: 600V; Type: Zero Cross; Category: Optocoupler Triac; Match Code: WL-OCTR; ComponentLink1Description: Website Link; ComponentLink1URL: https://www.we-online.com/redexpert/article/14230626111?ad; ComponentLink2Description: Datasheet Link; ComponentLink2URL: https://www.we-online.com/redexpert/spec/14230626111?ad; Mount: Through Hole; Operating Temperature Max: 100°C; Operating Temperature Min: -40°C; Packaging: Tube; Case/Size Code: DIP-6_M-Type; Forward Voltage: 1.24V; LED Trigger current: 10mA
footprint WL-OCTR_DIP-6_M-Type
pins: 1 Anode, 2 Cathode, 3 NC, 4 Terminal, 5 NC, 6 Terminal
text: ZCC

## 14230626301
designator Q?, comment 10mA, 1.24V  (value not drawn)
WL-OCTR Optocoupler Triac, SMT, DIP-6_SL-Type, 10mA, 1.24V; Manufacturer Part Number: 14230626301; Manufacturer: Wurth Elektronik; Isolation Voltage: 5000V (RMS); Repetitive Peak Off-state Voltage: 600V; Type: Zero Cross; Category: Optocoupler Triac; Match Code: WL-OCTR; ComponentLink1Description: Website Link; ComponentLink1URL: https://www.we-online.com/redexpert/article/14230626301?ad; ComponentLink2Description: Datasheet Link; ComponentLink2URL: https://www.we-online.com/redexpert/spec/14230626301?ad; Mount: Surface Mount; Operating Temperature Max: 100°C; Operating Temperature Min: -40°C; Packaging: Tube; Case/Size Code: DIP-6_SL-Type; Forward Voltage: 1.24V; LED Trigger current: 10mA
footprint WL-OCTR_DIP-6_SL-Type
pins: 1 Anode, 2 Cathode, 3 NC, 4 Terminal, 5 NC, 6 Terminal
text: ZCC

## 14230634010
designator Q?, comment 5mA, 1.24V  (value not drawn)
WL-OCTR Optocoupler Triac, THT, DIP-4_Standard, 5mA, 1.24V; Manufacturer Part Number: 14230634010; Manufacturer: Wurth Elektronik; Isolation Voltage: 5000V (RMS); Repetitive Peak Off-state Voltage: 600V; Type: Zero Cross; Category: Optocoupler Triac; Match Code: WL-OCTR; ComponentLink1Description: Website Link; ComponentLink1URL: https://www.we-online.com/redexpert/article/14230634010?ad; ComponentLink2Description: Datasheet Link; ComponentLink2URL: https://www.we-online.com/redexpert/spec/14230634010?ad; Mount: Through Hole; Operating Temperature Max: 100°C; Operating Temperature Min: -40°C; Packaging: Tube; Case/Size Code: DIP-4_Standard; Forward Voltage: 1.24V; LED Trigger current: 5mA
footprint WL-OCTR_DIP-4_Standard
pins: 1 Anode, 2 Cathode, 3 Terminal, 4 Terminal
text: ZCC

## 14230634110
designator Q?, comment 5mA, 1.24V  (value not drawn)
WL-OCTR Optocoupler Triac, THT, DIP-4_M-Type, 5mA, 1.24V; Manufacturer Part Number: 14230634110; Manufacturer: Wurth Elektronik; Isolation Voltage: 5000V (RMS); Repetitive Peak Off-state Voltage: 600V; Type: Zero Cross; Category: Optocoupler Triac; Match Code: WL-OCTR; ComponentLink1Description: Website Link; ComponentLink1URL: https://www.we-online.com/redexpert/article/14230634110?ad; ComponentLink2Description: Datasheet Link; ComponentLink2URL: https://www.we-online.com/redexpert/spec/14230634110?ad; Mount: Through Hole; Operating Temperature Max: 100°C; Operating Temperature Min: -40°C; Packaging: Tube; Case/Size Code: DIP-4_M-Type; Forward Voltage: 1.24V; LED Trigger current: 5mA
footprint WL-OCTR_DIP-4_M-Type
pins: 1 Anode, 2 Cathode, 3 Terminal, 4 Terminal
text: ZCC

## 14230634300
designator Q?, comment 5mA, 1.24V  (value not drawn)
WL-OCTR Optocoupler Triac, SMT, DIP-4_SL-Type, 5mA, 1.24V; Manufacturer Part Number: 14230634300; Manufacturer: Wurth Elektronik; Isolation Voltage: 5000V (RMS); Repetitive Peak Off-state Voltage: 600V; Type: Zero Cross; Category: Optocoupler Triac; Match Code: WL-OCTR; ComponentLink1Description: Website Link; ComponentLink1URL: https://www.we-online.com/redexpert/article/14230634300?ad; ComponentLink2Description: Datasheet Link; ComponentLink2URL: https://www.we-online.com/redexpert/spec/14230634300?ad; Mount: Surface Mount; Operating Temperature Max: 100°C; Operating Temperature Min: -40°C; Packaging: Tube; Case/Size Code: DIP-4_SL-Type; Forward Voltage: 1.24V; LED Trigger current: 5mA
footprint WL-OCTR_DIP-4_SL-Type
pins: 1 Anode, 2 Cathode, 3 Terminal, 4 Terminal
text: ZCC

## 14230634500
designator Q?, comment 5mA, 1.24V  (value not drawn)
WL-OCTR Optocoupler Triac, SMT, SOP-4_Standard, 5mA, 1.24V; Manufacturer Part Number: 14230634500; Manufacturer: Wurth Elektronik; Isolation Voltage: 3750V (RMS); Repetitive Peak Off-state Voltage: 600V; Type: Zero Cross; Category: Optocoupler Triac; Match Code: WL-OCTR; ComponentLink1Description: Website Link; ComponentLink1URL: https://www.we-online.com/redexpert/article/14230634500?ad; ComponentLink2Description: Datasheet Link; ComponentLink2URL: https://www.we-online.com/redexpert/spec/14230634500?ad; Mount: Surface Mount; Operating Temperature Max: 100°C; Operating Temperature Min: -40°C; Packaging: Tape and Reel; Case/Size Code: SOP-4_Standard; Forward Voltage: 1.24V; LED Trigger current: 5mA
footprint WL-OCTR_SOP-4_Standard
pins: 1 Anode, 2 Cathode, 3 Terminal, 4 Terminal
text: ZCC

## 14230636011
designator Q?, comment 5mA, 1.24V  (value not drawn)
WL-OCTR Optocoupler Triac, THT, DIP-6_Standard, 5mA, 1.24V; Manufacturer Part Number: 14230636011; Manufacturer: Wurth Elektronik; Isolation Voltage: 5000V (RMS); Repetitive Peak Off-state Voltage: 600V; Type: Zero Cross; Category: Optocoupler Triac; Match Code: WL-OCTR; ComponentLink1Description: Website Link; ComponentLink1URL: https://www.we-online.com/redexpert/article/14230636011?ad; ComponentLink2Description: Datasheet Link; ComponentLink2URL: https://www.we-online.com/redexpert/spec/14230636011?ad; Mount: Through Hole; Operating Temperature Max: 100°C; Operating Temperature Min: -40°C; Packaging: Tube; Case/Size Code: DIP-6_Standard; Forward Voltage: 1.24V; LED Trigger current: 5mA
footprint WL-OCTR_DIP-6_Standard
pins: 1 Anode, 2 Cathode, 3 NC, 4 Terminal, 5 NC, 6 Terminal
text: ZCC

## 14230636111
designator Q?, comment 5mA, 1.24V  (value not drawn)
WL-OCTR Optocoupler Triac, THT, DIP-6_M-Type, 5mA, 1.24V; Manufacturer Part Number: 14230636111; Manufacturer: Wurth Elektronik; Isolation Voltage: 5000V (RMS); Repetitive Peak Off-state Voltage: 600V; Type: Zero Cross; Category: Optocoupler Triac; Match Code: WL-OCTR; ComponentLink1Description: Website Link; ComponentLink1URL: https://www.we-online.com/redexpert/article/14230636111?ad; ComponentLink2Description: Datasheet Link; ComponentLink2URL: https://www.we-online.com/redexpert/spec/14230636111?ad; Mount: Through Hole; Operating Temperature Max: 100°C; Operating Temperature Min: -40°C; Packaging: Tube; Case/Size Code: DIP-6_M-Type; Forward Voltage: 1.24V; LED Trigger current: 5mA
footprint WL-OCTR_DIP-6_M-Type
pins: 1 Anode, 2 Cathode, 3 NC, 4 Terminal, 5 NC, 6 Terminal
text: ZCC

## 14230636301
designator Q?, comment 5mA, 1.24V  (value not drawn)
WL-OCTR Optocoupler Triac, SMT, DIP-6_SL-Type, 5mA, 1.24V; Manufacturer Part Number: 14230636301; Manufacturer: Wurth Elektronik; Isolation Voltage: 5000V (RMS); Repetitive Peak Off-state Voltage: 600V; Type: Zero Cross; Category: Optocoupler Triac; Match Code: WL-OCTR; ComponentLink1Description: Website Link; ComponentLink1URL: https://www.we-online.com/redexpert/article/14230636301?ad; ComponentLink2Description: Datasheet Link; ComponentLink2URL: https://www.we-online.com/redexpert/spec/14230636301?ad; Mount: Surface Mount; Operating Temperature Max: 100°C; Operating Temperature Min: -40°C; Packaging: Tube; Case/Size Code: DIP-6_SL-Type; Forward Voltage: 1.24V; LED Trigger current: 5mA
footprint WL-OCTR_DIP-6_SL-Type
pins: 1 Anode, 2 Cathode, 3 NC, 4 Terminal, 5 NC, 6 Terminal
text: ZCC